# Altium schematic symbol library MSP430G2553IPW0_Q1.SchLib: 1 symbol
Pins are listed as number, name and electrical type; pins without a type are passive.

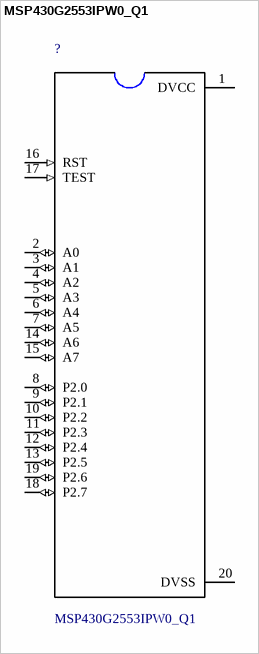
[diagram p0: symbol MSP430G2553IPW0_Q1]

## MSP430G2553IPW0_Q1
designator ?
MSP430? Ultra-Low-Power Microcontrollers for Automotive Applications 20-TSSOP -40 to 85; MP: MSP430G2553IPW0 Q1; MF: Texas Instruments; Price: None; Availability: Unavailable; Package: TSSOP-20 Texas Instruments; SnapEDA_Link: https://www.snapeda.com/parts/MSP430G2553IPW0%20Q1/Texas%20Instruments/view-part/?ref=snap; Value: *
footprint *TSSOP-20
pins: 1 DVCC (power), 2 A0 (io), 3 A1 (io), 4 A2 (io), 5 A3 (io), 6 A4 (io), 7 A5 (io), 8 P2.0 (io), 9 P2.1 (io), 10 P2.2 (io), 11 P2.3 (io), 12 P2.4 (io), 13 P2.5 (io), 14 A6 (io), 15 A7 (io), 16 RST (in), 17 TEST (in), 18 P2.7 (io), 19 P2.6 (io), 20 DVSS